# Altium integrated library Linear Technology Power Management Switching Regulator LTC1174-LTC3901.IntLib: 2647 symbols (part 97 of 364)
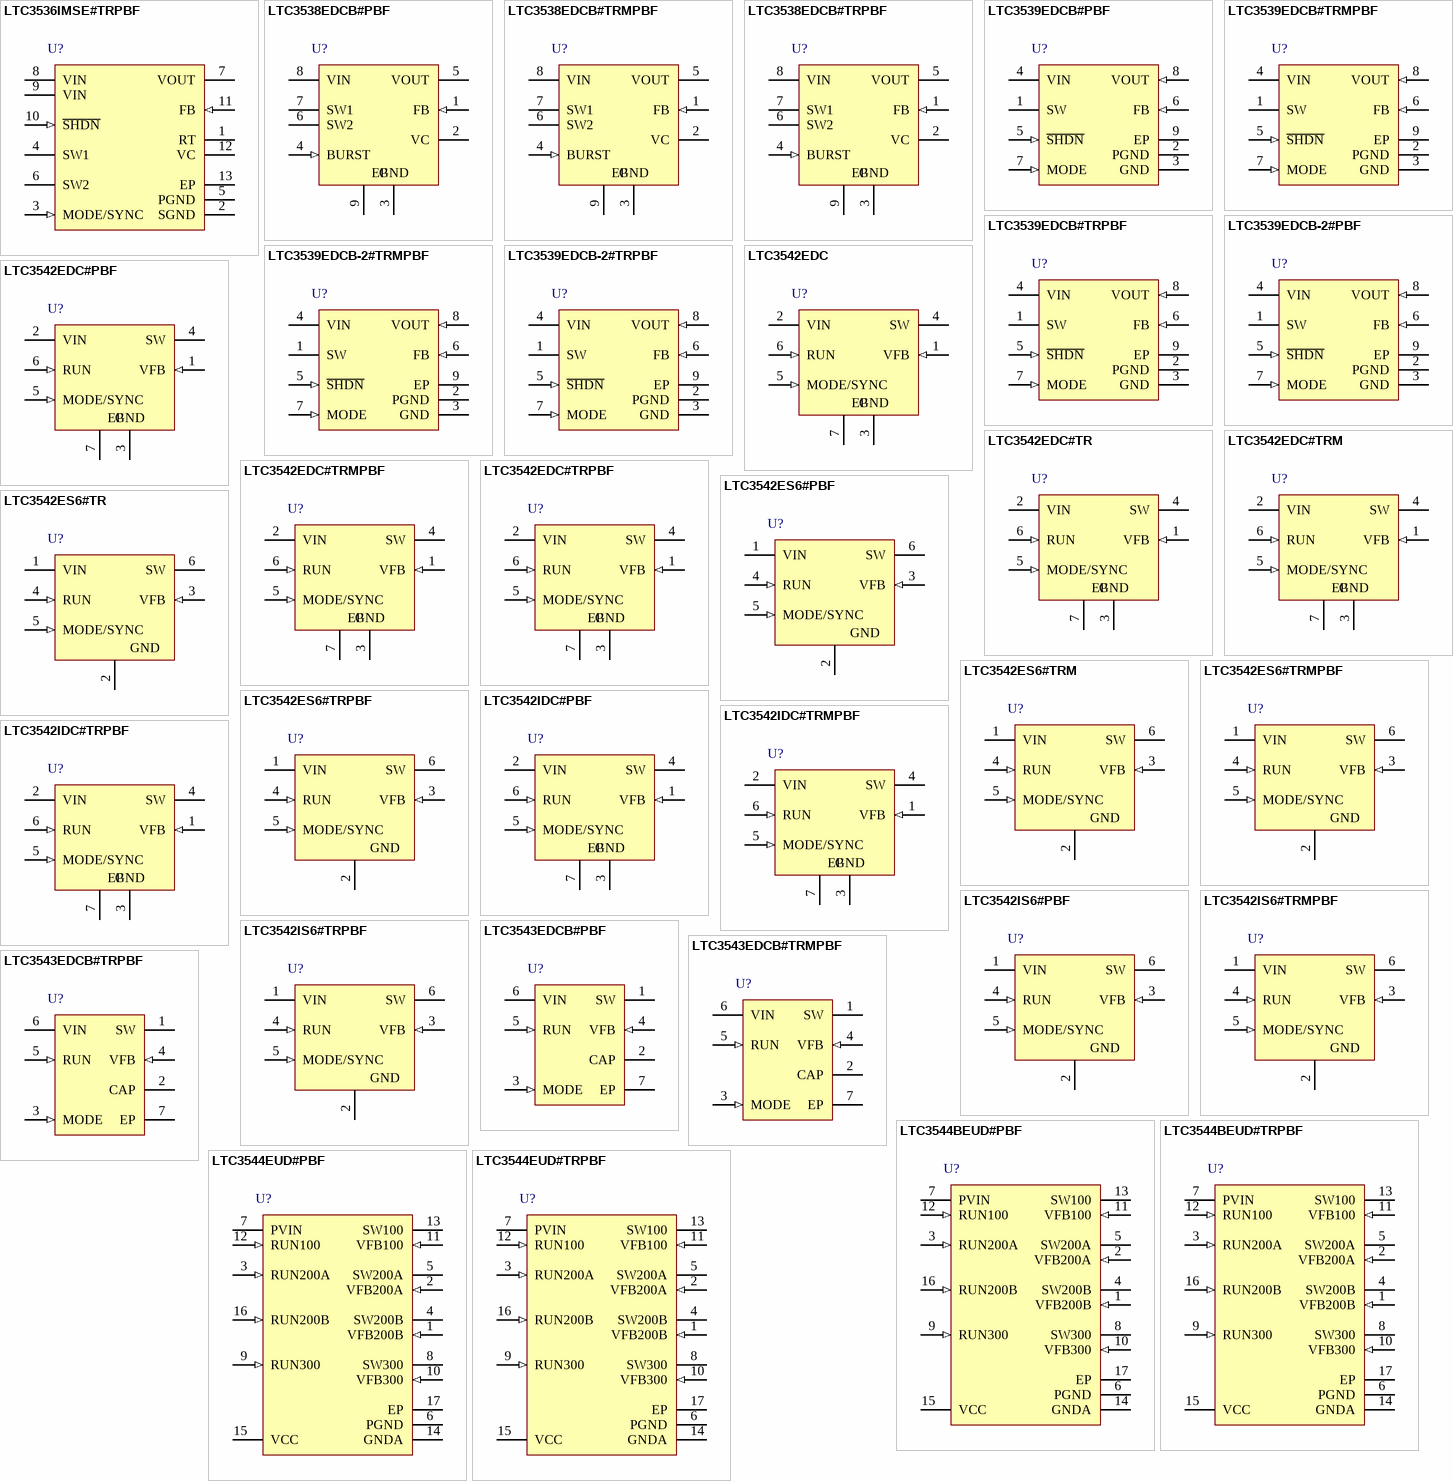
[diagram p264: symbols LTC3536IMSE#TRPBF to LTC3544EUD#TRPBF]

## LTC3539EDCB#TRMPBF
designator U?
2 A, 1 MHz / 2 MHz Synchronous Step-Up DC/DC Converter, 8-pin SON (DCB-8), -40 to 85 degC, Pb-Free, Mini Tape and Reel; Manufacturer: Linear Technology; PartNumber: LTC3539EDCB#TRMPBF; Number of Outputs: 1; DatasheetVersion: Rev. B; PackageVersion: Rev. A, 06/2010; PackageReference: DCB-8; PackageDescription: 8-Pin Plastic DFN, Body 2 x 3 mm, Pitch 0.45 mm; Supplier 1: Digi-Key; Supplier Part Number 1: LTC3539EDCB#TRMPBFTR-ND; Supplier 2: Digi-Key; Supplier Part Number 2: LTC3539EDCB#TRMPBFCT-ND; Supplier 3: Digi-Key; Supplier Part Number 3: LTC3539EDCB#TRMPBFDKR-ND; Supplier 4: Farnell; Supplier Part Number 4: 1609734; Supplier 5: Farnell; Supplier Part Number 5: 1609734RL; Supplier 6: Newark; Supplier Part Number 6: 14N8610; Supplier 7: Newark; Supplier Part Number 7: 01N6400; Packing: Mini Tape and Reel; RoHS: TRUE; Mounting Technology: Surface Mount; ComponentLink1Description: Manufacturer URL; ComponentLink1URL: http://www.linear.com/; ComponentLink2Description: Datasheet; ComponentLink2URL: http://cds.linear.com/docs/en/datasheet/35392fb.pdf; ComponentLink3Description: Package Specification; ComponentLink3URL: http://cds.linear.com/docs/en/packaging/DFN_8_05-08-1718.pdf
footprint LT-DCB-8_V (SON, 8-Leads, Body 3x2mm, Pitch 0.45mm, Thermal Pad 1.65x1.35mm)
pins: 1 SW "Switch Pin. Connect inductor between SW and VIN. Keep PCB trace lengths as short and wide as possible to reduce EMI. If the inductor current falls to zero, or SHDN is low, an internal anti-ring resistor is connected from SW (See Datasheet)", 2 PGND (power) "Signal and Power Ground. Provide a short direct PCB path between PGND, GND and the (-) side of the input and output capacitors.", 3 GND (power) "Signal and Power Ground. Provide a short direct PCB path between PGND, GND and the (-) side of the input and output capacitors.", 4 VIN (power) "Battery Input Voltage. Connect a minimum of 2.2uF ceramic decoupling capacitor from this pin to ground.", 5 ~{SHDN} (in) "Logic Controlled Shutdown Input. There is an internal 4Mohm pull-down on this pin. S\H\D\N\ = High: Normal operation. S\H\D\N\ = Low: Shutdown, quiescent current <1uA.", 6 FB (in) "Feedback Input to the gm Error Amplifier.Connect resistor divider tap to this pin. The output voltage can be adjusted from 1.5V to 5.25V by: VOUT = 1.20V ?[1 + (R2/R1)]", 7 MODE (in) "Burst Mode Pin. A logic controlled input to select either automatic Burst Mode operation or forced fixed frequency operation. MODE = High: Burst Mode operation at light loads. MODE = Low: Fixed frequency PWM Mode.", 8 VOUT (in) "Output Voltage Sense and Drain of the Internal Synchronous Rectifier. PCB trace length from VOUT to the output filter capacitor should be as short and wide as possible.", 9 EP (power) "The exposed pad must be soldered to the PCB ground plane. It serves as another ground connection, and as a means of conducting heat away from the die."

## LTC3539EDCB#TRPBF
designator U?
2 A, 1 MHz / 2 MHz Synchronous Step-Up DC/DC Converter, 8-pin SON (DCB-8), -40 to 85 degC, Pb-Free, Tape and Reel; Manufacturer: Linear Technology; PartNumber: LTC3539EDCB#TRPBF; Number of Outputs: 1; DatasheetVersion: Rev. B; PackageVersion: Rev. A, 06/2010; PackageReference: DCB-8; PackageDescription: 8-Pin Plastic DFN, Body 2 x 3 mm, Pitch 0.45 mm; Supplier 1: Digi-Key; Supplier Part Number 1: LTC3539EDCB#TRPBF-ND; Supplier 2: Newark; Supplier Part Number 2: 01N6401; Packing: Tape and Reel; RoHS: TRUE; Mounting Technology: Surface Mount; ComponentLink1Description: Manufacturer URL; ComponentLink1URL: http://www.linear.com/; ComponentLink2Description: Datasheet; ComponentLink2URL: http://cds.linear.com/docs/en/datasheet/35392fb.pdf; ComponentLink3Description: Package Specification; ComponentLink3URL: http://cds.linear.com/docs/en/packaging/DFN_8_05-08-1718.pdf
footprint LT-DCB-8_V (SON, 8-Leads, Body 3x2mm, Pitch 0.45mm, Thermal Pad 1.65x1.35mm)
pins: 1 SW "Switch Pin. Connect inductor between SW and VIN. Keep PCB trace lengths as short and wide as possible to reduce EMI. If the inductor current falls to zero, or SHDN is low, an internal anti-ring resistor is connected from SW (See Datasheet)", 2 PGND (power) "Signal and Power Ground. Provide a short direct PCB path between PGND, GND and the (-) side of the input and output capacitors.", 3 GND (power) "Signal and Power Ground. Provide a short direct PCB path between PGND, GND and the (-) side of the input and output capacitors.", 4 VIN (power) "Battery Input Voltage. Connect a minimum of 2.2uF ceramic decoupling capacitor from this pin to ground.", 5 ~{SHDN} (in) "Logic Controlled Shutdown Input. There is an internal 4Mohm pull-down on this pin. S\H\D\N\ = High: Normal operation. S\H\D\N\ = Low: Shutdown, quiescent current <1uA.", 6 FB (in) "Feedback Input to the gm Error Amplifier.Connect resistor divider tap to this pin. The output voltage can be adjusted from 1.5V to 5.25V by: VOUT = 1.20V ?[1 + (R2/R1)]", 7 MODE (in) "Burst Mode Pin. A logic controlled input to select either automatic Burst Mode operation or forced fixed frequency operation. MODE = High: Burst Mode operation at light loads. MODE = Low: Fixed frequency PWM Mode.", 8 VOUT (in) "Output Voltage Sense and Drain of the Internal Synchronous Rectifier. PCB trace length from VOUT to the output filter capacitor should be as short and wide as possible.", 9 EP (power) "The exposed pad must be soldered to the PCB ground plane. It serves as another ground connection, and as a means of conducting heat away from the die."

## LTC3539EDCB-2#PBF
designator U?
2 A, 1 MHz / 2 MHz Synchronous Step-Up DC/DC Converter, 8-pin SON (DCB-8), -40 to 85 degC, Pb-Free; Manufacturer: Linear Technology; PartNumber: LTC3539EDCB-2#PBF; Number of Outputs: 1; DatasheetVersion: Rev. B; PackageVersion: Rev. A, 06/2010; PackageReference: DCB-8; PackageDescription: 8-Pin Plastic DFN, Body 2 x 3 mm, Pitch 0.45 mm; Supplier 1: Newark; Supplier Part Number 1: 78T3201; RoHS: TRUE; Mounting Technology: Surface Mount; ComponentLink1Description: Manufacturer URL; ComponentLink1URL: http://www.linear.com/; ComponentLink2Description: Datasheet; ComponentLink2URL: http://cds.linear.com/docs/en/datasheet/35392fb.pdf; ComponentLink3Description: Package Specification; ComponentLink3URL: http://cds.linear.com/docs/en/packaging/DFN_8_05-08-1718.pdf
footprint LT-DCB-8_V (SON, 8-Leads, Body 3x2mm, Pitch 0.45mm, Thermal Pad 1.65x1.35mm)
pins: 1 SW "Switch Pin. Connect inductor between SW and VIN. Keep PCB trace lengths as short and wide as possible to reduce EMI. If the inductor current falls to zero, or SHDN is low, an internal anti-ring resistor is connected from SW (See Datasheet)", 2 PGND (power) "Signal and Power Ground. Provide a short direct PCB path between PGND, GND and the (-) side of the input and output capacitors.", 3 GND (power) "Signal and Power Ground. Provide a short direct PCB path between PGND, GND and the (-) side of the input and output capacitors.", 4 VIN (power) "Battery Input Voltage. Connect a minimum of 2.2uF ceramic decoupling capacitor from this pin to ground.", 5 ~{SHDN} (in) "Logic Controlled Shutdown Input. There is an internal 4Mohm pull-down on this pin. S\H\D\N\ = High: Normal operation. S\H\D\N\ = Low: Shutdown, quiescent current <1uA.", 6 FB (in) "Feedback Input to the gm Error Amplifier.Connect resistor divider tap to this pin. The output voltage can be adjusted from 1.5V to 5.25V by: VOUT = 1.20V ?[1 + (R2/R1)]", 7 MODE (in) "Burst Mode Pin. A logic controlled input to select either automatic Burst Mode operation or forced fixed frequency operation. MODE = High: Burst Mode operation at light loads. MODE = Low: Fixed frequency PWM Mode.", 8 VOUT (in) "Output Voltage Sense and Drain of the Internal Synchronous Rectifier. PCB trace length from VOUT to the output filter capacitor should be as short and wide as possible.", 9 EP (power) "The exposed pad must be soldered to the PCB ground plane. It serves as another ground connection, and as a means of conducting heat away from the die."

## LTC3539EDCB-2#TRMPBF
designator U?
2 A, 1 MHz / 2 MHz Synchronous Step-Up DC/DC Converter, 8-pin SON (DCB-8), -40 to 85 degC, Pb-Free, Mini Tape and Reel; Manufacturer: Linear Technology; PartNumber: LTC3539EDCB-2#TRMPBF; Number of Outputs: 1; DatasheetVersion: Rev. B; PackageVersion: Rev. A, 06/2010; PackageReference: DCB-8; PackageDescription: 8-Pin Plastic DFN, Body 2 x 3 mm, Pitch 0.45 mm; Supplier 1: Digi-Key; Supplier Part Number 1: LTC3539EDCB-2#TRMPBF-ND; Supplier 2: Farnell; Supplier Part Number 2: 1639911; Supplier 3: Newark; Supplier Part Number 3: 14N8609; Supplier 4: Newark; Supplier Part Number 4: 01N6398; Packing: Mini Tape and Reel; RoHS: TRUE; Mounting Technology: Surface Mount; ComponentLink1Description: Manufacturer URL; ComponentLink1URL: http://www.linear.com/; ComponentLink2Description: Datasheet; ComponentLink2URL: http://cds.linear.com/docs/en/datasheet/35392fb.pdf; ComponentLink3Description: Package Specification; ComponentLink3URL: http://cds.linear.com/docs/en/packaging/DFN_8_05-08-1718.pdf
footprint LT-DCB-8_V (SON, 8-Leads, Body 3x2mm, Pitch 0.45mm, Thermal Pad 1.65x1.35mm)
pins: 1 SW "Switch Pin. Connect inductor between SW and VIN. Keep PCB trace lengths as short and wide as possible to reduce EMI. If the inductor current falls to zero, or SHDN is low, an internal anti-ring resistor is connected from SW (See Datasheet)", 2 PGND (power) "Signal and Power Ground. Provide a short direct PCB path between PGND, GND and the (-) side of the input and output capacitors.", 3 GND (power) "Signal and Power Ground. Provide a short direct PCB path between PGND, GND and the (-) side of the input and output capacitors.", 4 VIN (power) "Battery Input Voltage. Connect a minimum of 2.2uF ceramic decoupling capacitor from this pin to ground.", 5 ~{SHDN} (in) "Logic Controlled Shutdown Input. There is an internal 4Mohm pull-down on this pin. S\H\D\N\ = High: Normal operation. S\H\D\N\ = Low: Shutdown, quiescent current <1uA.", 6 FB (in) "Feedback Input to the gm Error Amplifier.Connect resistor divider tap to this pin. The output voltage can be adjusted from 1.5V to 5.25V by: VOUT = 1.20V ?[1 + (R2/R1)]", 7 MODE (in) "Burst Mode Pin. A logic controlled input to select either automatic Burst Mode operation or forced fixed frequency operation. MODE = High: Burst Mode operation at light loads. MODE = Low: Fixed frequency PWM Mode.", 8 VOUT (in) "Output Voltage Sense and Drain of the Internal Synchronous Rectifier. PCB trace length from VOUT to the output filter capacitor should be as short and wide as possible.", 9 EP (power) "The exposed pad must be soldered to the PCB ground plane. It serves as another ground connection, and as a means of conducting heat away from the die."

## LTC3539EDCB-2#TRPBF
designator U?
2 A, 1 MHz / 2 MHz Synchronous Step-Up DC/DC Converter, 8-pin SON (DCB-8), -40 to 85 degC, Pb-Free, Tape and Reel; Manufacturer: Linear Technology; PartNumber: LTC3539EDCB-2#TRPBF; Number of Outputs: 1; DatasheetVersion: Rev. B; PackageVersion: Rev. A, 06/2010; PackageReference: DCB-8; PackageDescription: 8-Pin Plastic DFN, Body 2 x 3 mm, Pitch 0.45 mm; Supplier 1: Digi-Key; Supplier Part Number 1: LTC3539EDCB-2#TRPBF-ND; Supplier 2: Newark; Supplier Part Number 2: 01N6399; Packing: Tape and Reel; RoHS: TRUE; Mounting Technology: Surface Mount; ComponentLink1Description: Manufacturer URL; ComponentLink1URL: http://www.linear.com/; ComponentLink2Description: Datasheet; ComponentLink2URL: http://cds.linear.com/docs/en/datasheet/35392fb.pdf; ComponentLink3Description: Package Specification; ComponentLink3URL: http://cds.linear.com/docs/en/packaging/DFN_8_05-08-1718.pdf
footprint LT-DCB-8_V (SON, 8-Leads, Body 3x2mm, Pitch 0.45mm, Thermal Pad 1.65x1.35mm)
pins: 1 SW "Switch Pin. Connect inductor between SW and VIN. Keep PCB trace lengths as short and wide as possible to reduce EMI. If the inductor current falls to zero, or SHDN is low, an internal anti-ring resistor is connected from SW (See Datasheet)", 2 PGND (power) "Signal and Power Ground. Provide a short direct PCB path between PGND, GND and the (-) side of the input and output capacitors.", 3 GND (power) "Signal and Power Ground. Provide a short direct PCB path between PGND, GND and the (-) side of the input and output capacitors.", 4 VIN (power) "Battery Input Voltage. Connect a minimum of 2.2uF ceramic decoupling capacitor from this pin to ground.", 5 ~{SHDN} (in) "Logic Controlled Shutdown Input. There is an internal 4Mohm pull-down on this pin. S\H\D\N\ = High: Normal operation. S\H\D\N\ = Low: Shutdown, quiescent current <1uA.", 6 FB (in) "Feedback Input to the gm Error Amplifier.Connect resistor divider tap to this pin. The output voltage can be adjusted from 1.5V to 5.25V by: VOUT = 1.20V ?[1 + (R2/R1)]", 7 MODE (in) "Burst Mode Pin. A logic controlled input to select either automatic Burst Mode operation or forced fixed frequency operation. MODE = High: Burst Mode operation at light loads. MODE = Low: Fixed frequency PWM Mode.", 8 VOUT (in) "Output Voltage Sense and Drain of the Internal Synchronous Rectifier. PCB trace length from VOUT to the output filter capacitor should be as short and wide as possible.", 9 EP (power) "The exposed pad must be soldered to the PCB ground plane. It serves as another ground connection, and as a means of conducting heat away from the die."